# Altium schematic symbol library F429_F746_MB_SCH.SchLib: 81 symbols
Pins are listed as number, name and electrical type; pins without a type are passive.

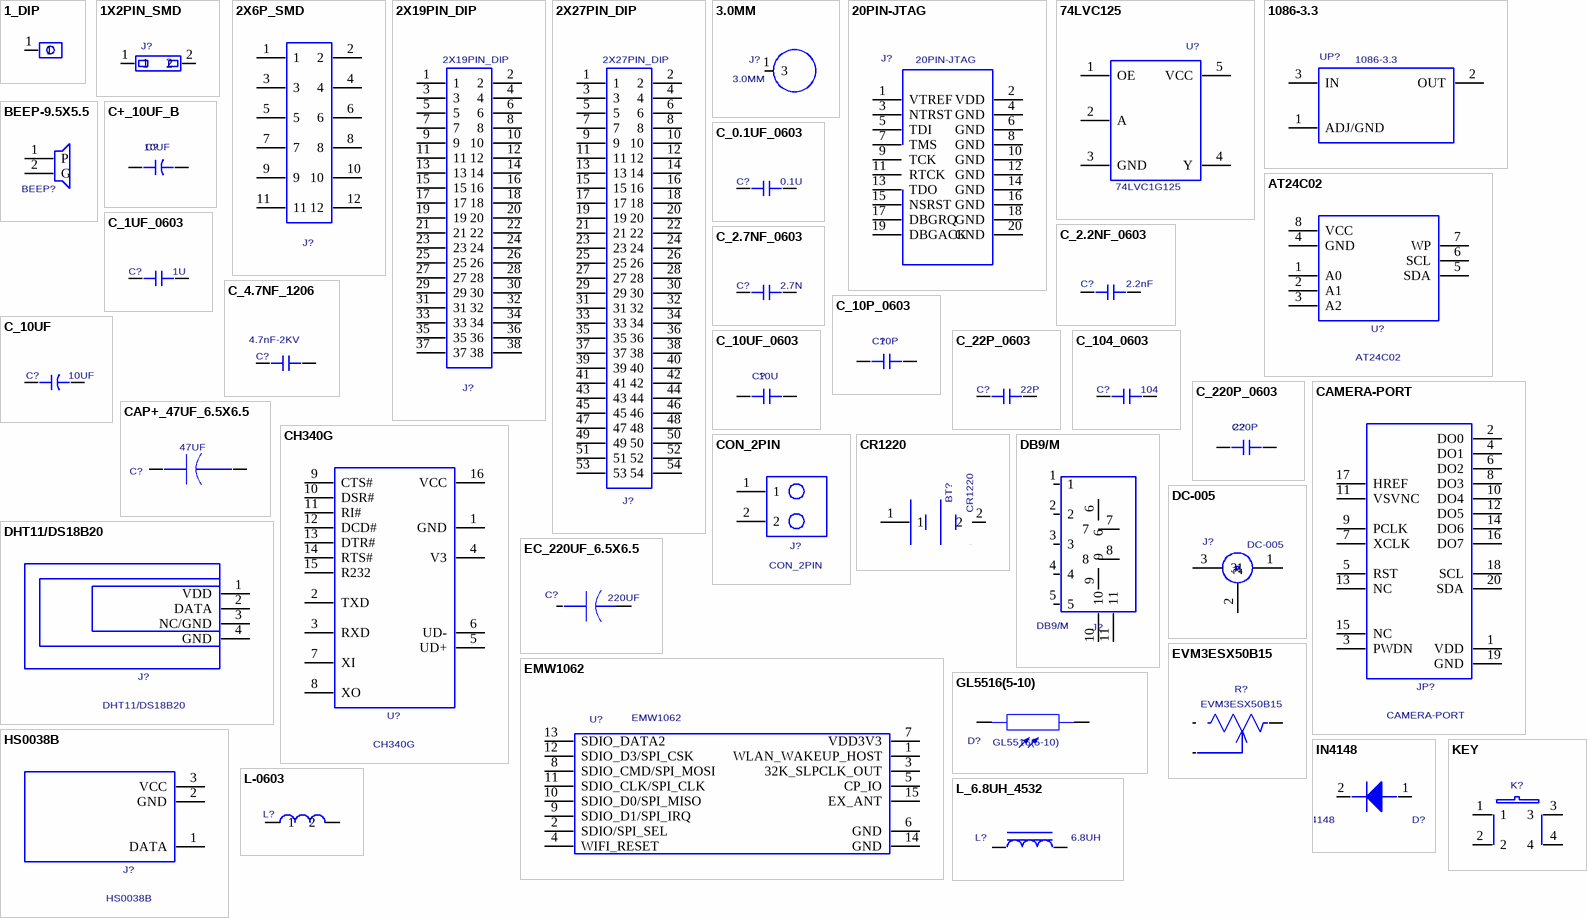
[diagram p0: symbols 1_DIP to L_6.8UH_4532]

## 1_DIP
designator J?  (value not drawn)
PCB DECAL: 1_DIP
footprint 1_DIP
pins: 1

## 1X2PIN_SMD
designator J?  (value not drawn)
PCB DECAL: 1X2PIN_SMD
footprint 1X2PIN_SMD
pins: 1, 2

## 2X6P_SMD
designator J?  (value not drawn)
PCB DECAL: 2X6P_SMD
footprint 2X6P_SMD
pins: 1, 2, 3, 4, 5, 6, 7, 8, 9, 10, 11, 12

## 2X19PIN_DIP
designator J?
PCB DECAL: 2X19X2.54MM
footprint 2X19X2.54MM
pins: 1, 2, 3, 4, 5, 6, 7, 8, 9, 10, 11, 12, 13, 14, 15, 16, 17, 18, 19, 20, 21, 22, 23, 24, 25, 26, 27, 28, 29, 30, 31, 32, 33, 34, 35, 36, 37, 38

## 2X27PIN_DIP
designator J?
value: 2X25PIN_DIP; PCB DECAL: 2X27X2.54MM
footprint 2X27X2.54MM
pins: 1, 2, 3, 4, 5, 6, 7, 8, 9, 10, 11, 12, 13, 14, 15, 16, 17, 18, 19, 20, 21, 22, 23, 24, 25, 26, 27, 28, 29, 30, 31, 32, 33, 34, 35, 36, 37, 38, 39, 40, 41, 42, 43, 44, 45, 46, 47, 48, 49, 50, 51, 52, 53, 54

## 3.0MM
designator J?
PCB DECAL: 3.0MM
footprint 3.0MM
pins: 1 3

## 20PIN-JTAG
designator J?
Value: 20PIN-2.54-JTAG; PCB DECAL: 20PIN-JTAG
footprint 20PIN-JTAG
pins: 1 VTREF, 2 VDD, 3 NTRST, 4 GND, 5 TDI, 6 GND, 7 TMS, 8 GND, 9 TCK, 10 GND, 11 RTCK, 12 GND, 13 TDO, 14 GND, 15 NSRST, 16 GND, 17 DBGRQ, 18 GND, 19 DBGACK, 20 GND

## 74LVC125
designator U?  value 74LVC1G125  (hidden comment: 74LVC125)
PCB DECAL: SOT-353
footprint SOT-353
pins: 1 OE, 2 A, 3 GND, 4 Y, 5 VCC

## 1086-3.3
designator UP?
Manufacturer #1: AMS; PCB DECAL: TO-252-2L; Manufacturer #1 PN: 1086-3.3; Value: 1086-3.3
footprint TO-252-2L
pins: 1 ADJ/GND, 2 OUT, 3 IN

## AT24C02
designator U?
PCB DECAL: SOP8; Value: AT24C02
footprint SOP8
pins: 1 A0, 2 A1, 3 A2, 4 GND, 5 SDA, 6 SCL, 7 WP, 8 VCC

## BEEP-9.5X5.5
designator BEEP?  (value not drawn)
PCB DECAL: BEEP-9.5X5.5
footprint BEEP-9.5X5.5
pins: 1 P, 2 G

## C+_10UF_B
designator C?  value 10UF  (hidden comment: C+_10UF_B)
PCB DECAL: AVX_B_3528-21
footprint AVX_B_3528-21
pins: 1 +, 2 -

## C_0.1UF_0603
designator C?  value 0.1U  (hidden comment: C_0.1UF_0603)
PCB DECAL: C_0603
footprint C_0603
pins: 1, 2

## C_1UF_0603
designator C?  value 1U  (hidden comment: C_1UF_0603)
PCB DECAL: C_0603
footprint C_0603
pins: 1, 2

## C_2.2NF_0603
designator C?  value 2.2nF  (hidden comment: C_2.2NF_0603)
PCB DECAL: C_0603
footprint C_0603
pins: 1, 2

## C_2.7NF_0603
designator C?  value 2.7N  (hidden comment: C_2.7NF_0603)
PCB DECAL: C_0603
footprint C_0603
pins: 1, 2

## C_4.7NF_1206
designator C?  value 4.7nF-2KV  (hidden comment: C_4.7NF_1206)
PCB DECAL: 1206C
footprint 1206C
pins: 1, 2

## C_10P_0603
designator C?  value 10P  (hidden comment: C_10P_0603)
PCB DECAL: C_0603
footprint C_0603
pins: 1, 2

## C_10UF
designator C?  value 10UF  (hidden comment: C_10UF)
PCB DECAL: C_0603
footprint C_0603
pins: 1 +, 2 -

## C_10UF_0603
designator C?  value 10U  (hidden comment: C_10UF_0603)
PCB DECAL: C_0603
footprint C_0603
pins: 1, 2

## C_22P_0603
designator C?  value 22P  (hidden comment: C_22P_0603)
PCB DECAL: C_0603
footprint C_0603
pins: 1, 2

## C_104_0603
designator C?  value 104  (hidden comment: C_104_0603)
PCB DECAL: C_0603
footprint C_0603
pins: 1, 2

## C_220P_0603
designator C?  value 220P  (hidden comment: C_220P_0603)
PCB DECAL: C_0603
footprint C_0603
pins: 1, 2

## CAMERA-PORT
designator JP?
PCB DECAL: 20PIN_2.54_DIP_BOT; Manufacture 1 P/N: CAMERA-PORT
footprint 20PIN_2.54_DIP_BOT
pins: 1 VDD, 2 DO0, 3 PWDN, 4 DO1, 5 RST, 6 DO2, 7 XCLK, 8 DO3, 9 PCLK, 10 DO4, 11 VSVNC, 12 DO5, 13 NC, 14 DO6, 15 NC, 16 DO7, 17 HREF, 18 SCL, 19 GND, 20 SDA

## CAP+_47UF_6.5X6.5
designator C?  value 47UF  (hidden comment: CAP+_47UF_6.5X6.5)
PCB DECAL: EC_47UF_6.5X6.5
footprint EC_47UF_6.5X6.5
pins: 1, 2

## CH340G
designator U?
PCB DECAL: SOP16; Value: CH340G
footprint SOP16
pins: 1 GND, 2 TXD, 3 RXD, 4 V3, 5 UD+, 6 UD-, 7 XI, 8 XO, 9 CTS#, 10 DSR#, 11 RI#, 12 DCD#, 13 DTR#, 14 RTS#, 15 R232, 16 VCC

## CON_2PIN
designator J?
PCB DECAL: CON_2PIN
footprint CON_2PIN
pins: 1, 2

## CR1220
designator BT?
PCB DECAL: BATERY
footprint BATERY
pins: 1, 2

## DB9/M
designator J?
PCB DECAL: DB9; Value: DB9/F
footprint DB9
pins: 1, 2, 3, 4, 5, 6, 7, 8, 9, 10, 11

## DC-005
designator J?
PCB DECAL: DC-005
footprint DC-005
pins: 1, 2, 3

## DHT11/DS18B20
designator J?
Manufacture 1 P/N: DHT11/DS1302; PCB DECAL: HDR1X4
footprint HDR1X4
pins: 1 VDD, 2 DATA, 3 NC/GND, 4 GND

## EC_220UF_6.5X6.5
designator C?  value 220UF  (hidden comment: EC_220UF_6.5X6.5)
PCB DECAL: EC_220UF_6.5X6.5
footprint EC_220UF_6.5X6.5
pins: 1, 2

## EMW1062
designator U?
Value: EMW1062; PCB DECAL: EMW1062
footprint EMW1062
pins: 1 WLAN_WAKEUP_HOST, 2 SDIO/SPI_SEL, 3 32K_SLPCLK_OUT, 4 WIFI_RESET, 5 CP_IO, 6 GND, 7 VDD3V3, 8 SDIO_CMD/SPI_MOSI, 9 SDIO_D1/SPI_IRQ, 10 SDIO_D0/SPI_MISO, 11 SDIO_CLK/SPI_CLK, 12 SDIO_D3/SPI_CSK, 13 SDIO_DATA2, 14 GND, 15 EX_ANT

## EVM3ESX50B15
designator R?
c; Value: EVM3ESX50B15-100K; PCB DECAL: R-3X3
footprint R-3X3
pins: 1, 2, 3

## GL5516(5-10)
designator D?
PCB DECAL: R5MM; Value: GL5516(5-10)
footprint R5MM
pins: 1, 2

## HS0038B
designator J?
PCB DECAL: HDR1X3; Manufacture 1 P/N: HS0038B
footprint HDR1X3
pins: 1 DATA, 2 GND, 3 VCC

## IN4148
designator D?
PCB DECAL: DIODE_SOP; VALUE: IN4148
footprint DIODE_SOP
pins: 1 +, 2 -

## KEY
designator K?  (value not drawn)
PCB DECAL: SW6.2/6.2-SMD; Manufacturer #1 PN: KEY
footprint SW6.2/6.2-SMD
pins: 1, 2, 3, 4

## L-0603
designator L?  (value not drawn)
PCB DECAL: 0603
footprint 0603
pins: 1, 2

## L_6.8UH_4532
designator L?  value 6.8UH  (hidden comment: L_6.8UH_4532)
PCB DECAL: GDCD4532
footprint GDCD4532
pins: 1, 2

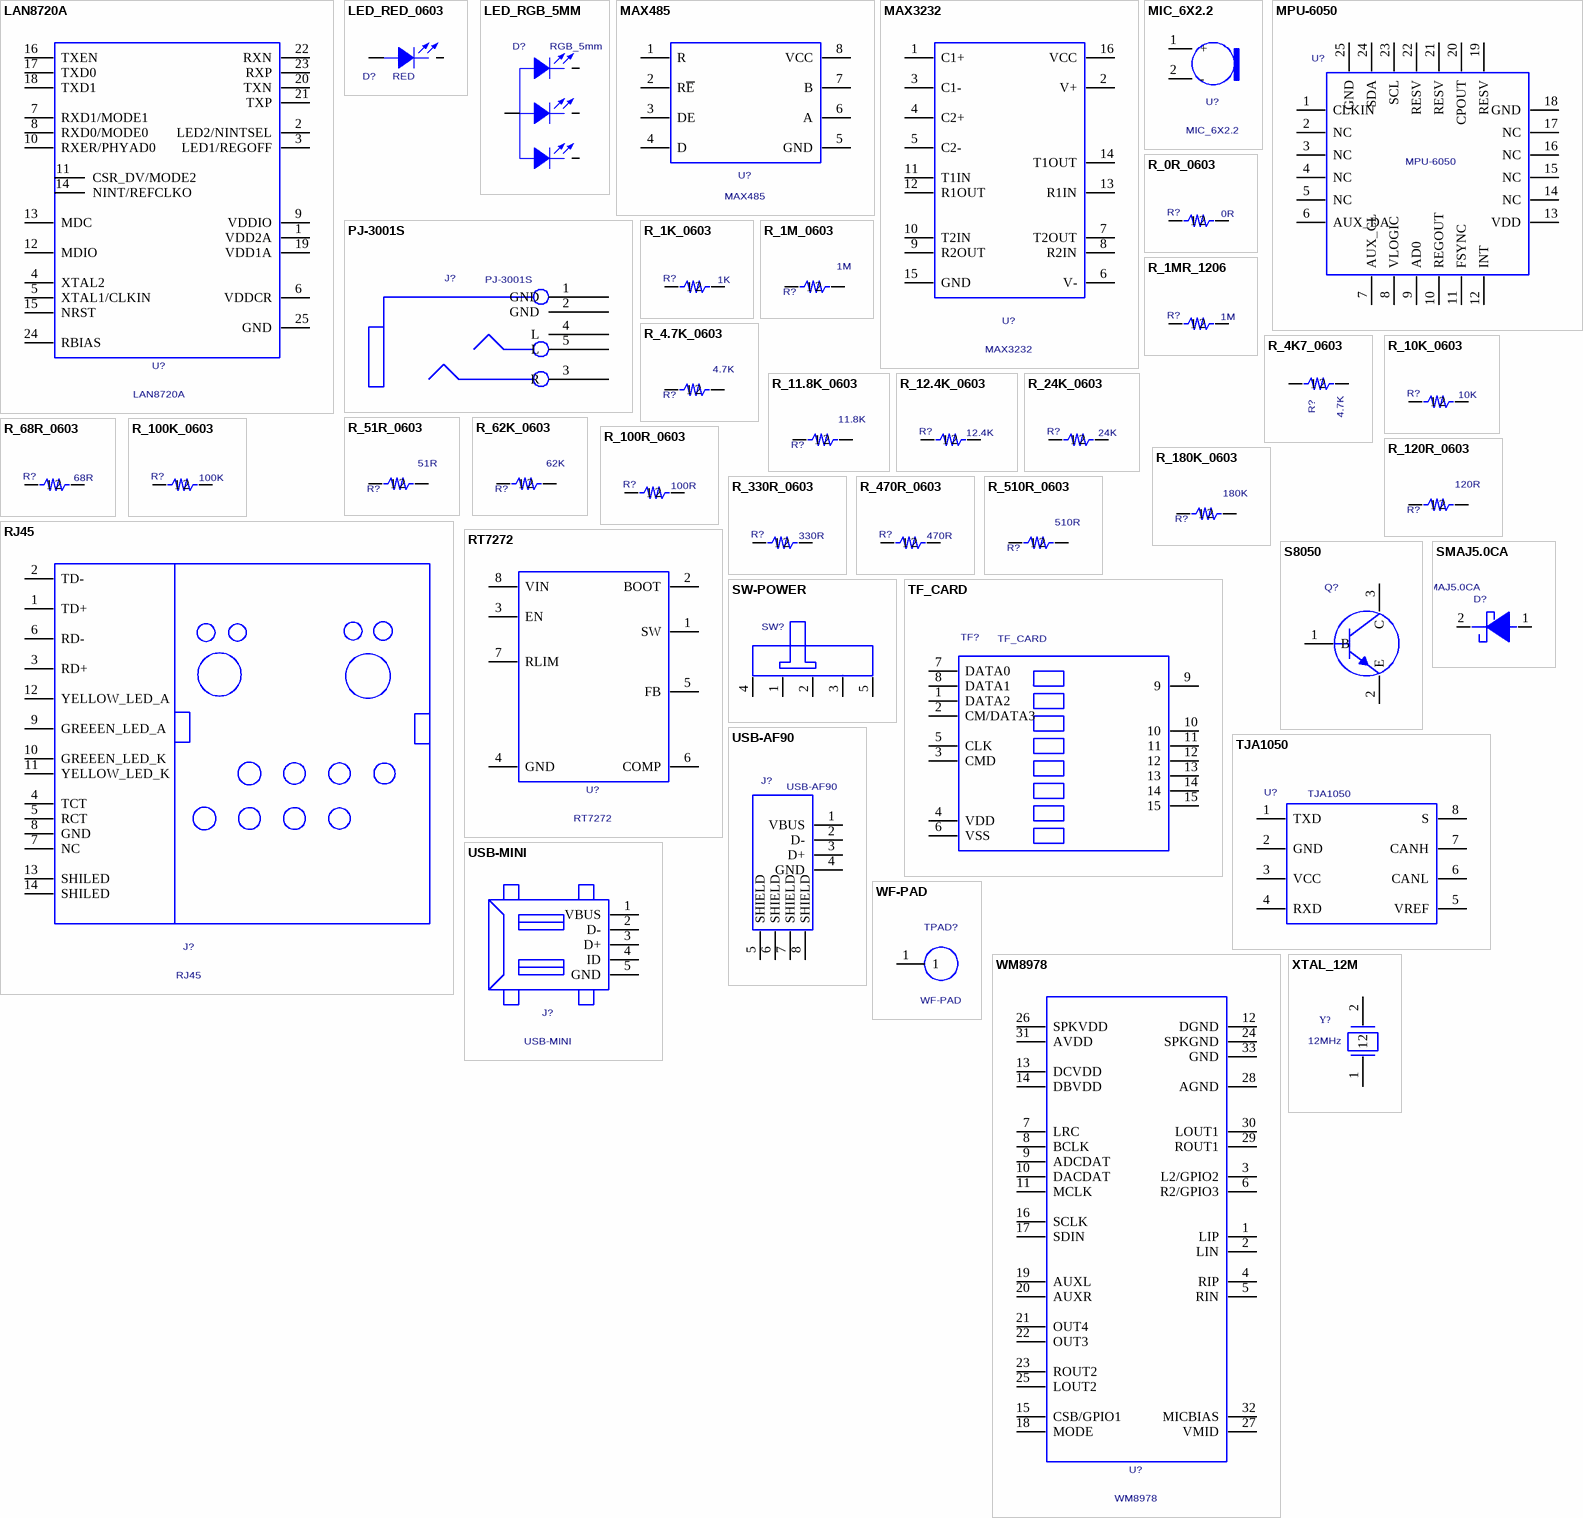
[diagram p1: symbols LAN8720A to XTAL_12M]

## LAN8720A
designator U?
PCB DECAL: QFN24; Value: LAN8720A
footprint QFN24
pins: 1 VDD2A, 2 LED2/NINTSEL, 3 LED1/REGOFF, 4 XTAL2, 5 XTAL1/CLKIN, 6 VDDCR, 7 RXD1/MODE1, 8 RXD0/MODE0, 9 VDDIO, 10 RXER/PHYAD0, 11 CSR_DV/MODE2, 12 MDIO, 13 MDC, 14 NINT/REFCLKO, 15 NRST, 16 TXEN, 17 TXD0, 18 TXD1, 19 VDD1A, 20 TXN, 21 TXP, 22 RXN, 23 RXP, 24 RBIAS, 25 GND

## LED_RED_0603
designator D?  value RED  (hidden comment: LED_RED_0603)
PCB DECAL: LED_0603
footprint LED_0603
pins: A ANODE, K CATHODE

## LED_RGB_5MM
designator D?  value RGB_5mm  (hidden comment: LED_RGB_5MM)
RGB; PCB DECAL: LED_RGB_5MM
footprint LED_RGB_5MM
pins: 1 G, 2 G, 3 R, 4 R

## MAX485
designator U?
PCB DECAL: MAX485; Value: MAX485
footprint MAX485
pins: 1 R, 2 R~{E}, 3 DE, 4 D, 5 GND, 6 A, 7 B, 8 VCC

## MAX3232
designator U?
Value: MAX232; PCB DECAL: MAX3232
footprint MAX3232
pins: 1 C1+, 2 V+, 3 C1-, 4 C2+, 5 C2-, 6 V-, 7 T2OUT, 8 R2IN, 9 R2OUT, 10 T2IN, 11 T1IN, 12 R1OUT, 13 R1IN, 14 T1OUT, 15 GND, 16 VCC

## MIC_6X2.2
designator U?
PCB DECAL: MIC_6X2.2
footprint MIC_6X2.2
pins: 1 +, 2 -

## MPU-6050
designator U?
PCB DECAL: QFN24; Value: MPU-6050
footprint QFN24
pins: 1 CLKIN, 2 NC, 3 NC, 4 NC, 5 NC, 6 AUX_DA, 7 AUX_CL, 8 VLOGIC, 9 AD0, 10 REGOUT, 11 FSYNC, 12 INT, 13 VDD, 14 NC, 15 NC, 16 NC, 17 NC, 18 GND, 19 RESV, 20 CPOUT, 21 RESV, 22 RESV, 23 SCL, 24 SDA, 25 GND

## PJ-3001S
designator J?
Manufacturer #1 PN: PJ-313D; Value: PJ-313D; PCB DECAL: PJ-3001S
footprint PJ-3001S
pins: 1 GND, 2 GND, 3 R, 4 L, 5 L

## R_0R_0603
designator R?  value 0R  (hidden comment: R_0R_0603)
PCB DECAL: R_0603
footprint R_0603
pins: 1, 2

## R_1K_0603
designator R?  value 1K  (hidden comment: R_1K_0603)
PCB DECAL: R_0603
footprint R_0603
pins: 1, 2

## R_1M_0603
designator R?  value 1M  (hidden comment: R_1M_0603)
PCB DECAL: R_0603
footprint R_0603
pins: 1, 2

## R_1MR_1206
designator R?  value 1M  (hidden comment: R_1MR_1206)
PCB DECAL: 1206C
footprint 1206C
pins: 1, 2

## R_4.7K_0603
designator R?  value 4.7K  (hidden comment: R_4.7K_0603)
PCB DECAL: R_0603
footprint R_0603
pins: 1, 2

## R_4K7_0603
designator R?  value 4.7K  (hidden comment: R_4K7_0603)
PCB DECAL: R_0603
footprint R_0603
pins: 1, 2

## R_10K_0603
designator R?  value 10K  (hidden comment: R_10K_0603)
PCB DECAL: R_0603
footprint R_0603
pins: 1, 2

## R_11.8K_0603
designator R?  value 11.8K  (hidden comment: R_11.8K_0603)
PCB DECAL: R_0603
footprint R_0603
pins: 1, 2

## R_12.4K_0603
designator R?  value 12.4K  (hidden comment: R_12.4K_0603)
PCB DECAL: R_0603
footprint R_0603
pins: 1, 2

## R_24K_0603
designator R?  value 24K  (hidden comment: R_24K_0603)
PCB DECAL: R_0603
footprint R_0603
pins: 1, 2

## R_51R_0603
designator R?  value 51R  (hidden comment: R_51R_0603)
PCB DECAL: R_0603
footprint R_0603
pins: 1, 2

## R_62K_0603
designator R?  value 62K  (hidden comment: R_62K_0603)
PCB DECAL: R_0603
footprint R_0603
pins: 1, 2

## R_68R_0603
designator R?  value 68R  (hidden comment: R_68R_0603)
PCB DECAL: R_0603
footprint R_0603
pins: 1, 2

## R_100K_0603
designator R?  value 100K  (hidden comment: R_100K_0603)
PCB DECAL: R_0603
footprint R_0603
pins: 1, 2

## R_100R_0603
designator R?  value 100R  (hidden comment: R_100R_0603)
PCB DECAL: R_0603
footprint R_0603
pins: 1, 2

## R_120R_0603
designator R?  value 120R  (hidden comment: R_120R_0603)
PCB DECAL: R_0603
footprint R_0603
pins: 1, 2

## R_180K_0603
designator R?  value 180K  (hidden comment: R_180K_0603)
PCB DECAL: R_0603
footprint R_0603
pins: 1, 2

## R_330R_0603
designator R?  value 330R  (hidden comment: R_330R_0603)
PCB DECAL: R_0603
footprint R_0603
pins: 1, 2

## R_470R_0603
designator R?  value 470R  (hidden comment: R_470R_0603)
PCB DECAL: R_0603
footprint R_0603
pins: 1, 2

## R_510R_0603
designator R?  value 510R  (hidden comment: R_510R_0603)
PCB DECAL: R_0603
footprint R_0603
pins: 1, 2

## RJ45
designator J?
Value: HR911105A; PCB DECAL: RJ45
footprint RJ45
pins: 1 TD+, 2 TD-, 3 RD+, 4 TCT, 5 RCT, 6 RD-, 7 NC, 8 GND, 9 GREEEN_LED_A, 10 GREEEN_LED_K, 11 YELLOW_LED_K, 12 YELLOW_LED_A, 13 SHILED, 14 SHILED

## RT7272
designator U?
PCB DECAL: RT7272; Value: RT7272
footprint RT7272
pins: 1 SW, 2 BOOT, 3 EN, 4 GND, 5 FB, 6 COMP, 7 RLIM, 8 VIN

## S8050
designator Q?  (value not drawn)
NPN; PCB DECAL: SOT-23; Value: S8050; Manufacturer #2: 8050
footprint SOT-23
pins: 1 B, 2 E, 3 C

## SMAJ5.0CA
designator D?
SMAJ5.0CA-E3/61 400W 5V; PCB DECAL: DO-214; Manufacture 1 P/N: SMAJ5.0CA; Value: SMAJ5.0CA
footprint DO-214
pins: 1 +, 2 -

## SW-POWER
designator SW?  (value not drawn)
SW-5; PCB DECAL: SW13_6; Manufacturer #1 PN: SW-5
footprint SW13_6
pins: 1, 2, 3, 4, 5

## TF_CARD
designator TF?
PCB DECAL: TF_CARD
footprint TF_CARD
pins: 1 DATA2, 2 CM/DATA3, 3 CMD, 4 VDD, 5 CLK, 6 VSS, 7 DATA0, 8 DATA1, 9, 10, 11, 12, 13, 14, 15

## TJA1050
designator U?
PCB DECAL: SOP8; Value: TJA1050
footprint SOP8
pins: 1 TXD, 2 GND, 3 VCC, 4 RXD, 5 VREF, 6 CANL, 7 CANH, 8 S

## USB-AF90
designator J?
PCB DECAL: USB-AF90; Value: USB-AF90
footprint USB-AF90
pins: 1 VBUS, 2 D-, 3 D+, 4 GND, 5 SHIELD, 6 SHIELD, 7 SHIELD, 8 SHIELD

## USB-MINI
designator J?
PCB DECAL: USB-MINI; Value: USB-MINI
footprint USB-MINI
pins: 1 VBUS, 2 D-, 3 D+, 4 ID, 5 GND

## WF-PAD
designator TPAD?
pins: 1

## WM8978
designator U?
PCB DECAL: QFN32; Value: WM8978
footprint QFN32
pins: 1 LIP, 2 LIN, 3 L2/GPIO2, 4 RIP, 5 RIN, 6 R2/GPIO3, 7 LRC, 8 BCLK, 9 ADCDAT, 10 DACDAT, 11 MCLK, 12 DGND, 13 DCVDD, 14 DBVDD, 15 CSB/GPIO1, 16 SCLK, 17 SDIN, 18 MODE, 19 AUXL, 20 AUXR, 21 OUT4, 22 OUT3, 23 ROUT2, 24 SPKGND, 25 LOUT2, 26 SPKVDD, 27 VMID, 28 AGND, 29 ROUT1, 30 LOUT1, 31 AVDD, 32 MICBIAS, 33 GND

## XTAL_12M
designator Y?  value 12MHz  (hidden comment: XTAL_12M)
PCB DECAL: XTAL_SMD
footprint XTAL_SMD
pins: 1, 2

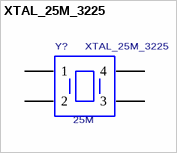
[diagram p2: symbol XTAL_25M_3225]

## XTAL_25M_3225
designator Y?  value 25M
PCB DECAL: 3225
footprint 3225
pins: 1, 2, 3, 4